# Altium footprint library smd.PcbLib: 6 footprints
Each footprint in its own frame and in the unit in brackets; x right, y up, seen from the top. Pads: shape width x height; smd on the part's side, far side on the other; paste and mask are expansions set on the pad; w line width, h text height; cw(c..) or ccw(c..) is an arc to the next point about the centre after c.
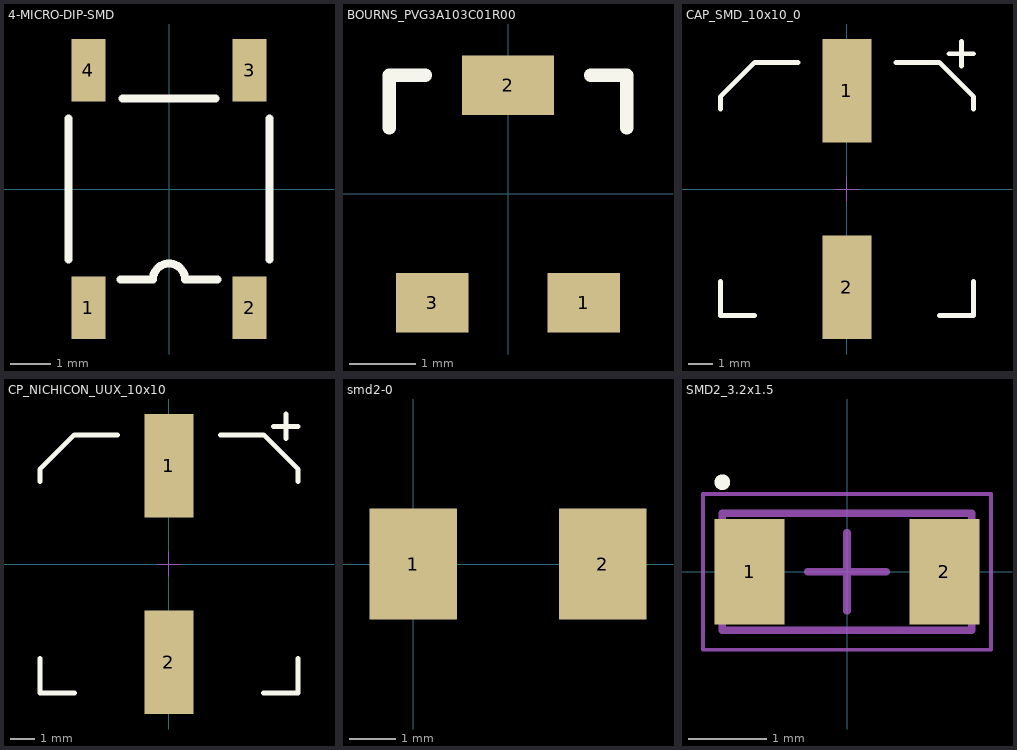
[diagram p0: the footprints below, top view; thin cyan lines are the x and y axes]

## 4-MICRO-DIP-SMD [mm]
pads (4):
  rect 0.85x1.55 smd: 1(-2,-2.95) 2(2,-2.95) 3(2,2.95) 4(-2,2.95)
Top Overlay:
  lines w0.2: -2.5,-1.75 -2.5,1.75 ; -1.2,-2.25 -0.4,-2.25 cw(c0,-2.25) 0.4,-2.25 1.2,-2.25 ; -1.15,2.25 1.15,2.25 ; 2.5,-1.75 2.5,1.75
3D body: height 1.3, standoff 0, extent -2.5,-2.25 2.5,2.25

## BOURNS_PVG3A103C01R00 [mm] "Potenetiometer, Bourns PBG3A series"
pads (3):
  rect 1.1x0.9 smd: 1(1.15,-1.65) 3(-1.15,-1.65)
  rect 1.4x0.9 smd: 2(0,1.65)
Top Overlay:
  lines w0.2: -1.8,1 -1.8,1.8 -1.25,1.8 ; 1.25,1.8 1.8,1.8 1.8,1
3D body "BOURNS_PVG3A103C01R00.step": height 2.06, standoff 0, extent -1.803,-1.803 1.803,1.803

## CAP_SMD_10x10_0 [mm]
pads (2):
  rect 2x4.2 smd: 1(0,4) 2(0,-4)
Top Overlay:
  lines w0.2: -5.15,-3.75 -5.15,-5.15 -3.75,-5.15 ; -5.15,3.25 -5.15,3.75 -3.75,5.15 -2,5.15 ; 2,5.15 3.75,5.15 5.15,3.75 5.15,3.25 ; 3.75,-5.15 5.15,-5.15 5.15,-3.75 ; 4.15,5.5 5.15,5.5 ; 4.65,5 4.65,6
Mechanical 15:
  lines w0.05: -0.5,0 0.5,0 ; 0,-0.5 0,0.5
3D body "CAP_SMD_10x10_0.SLDPRT": height 10, standoff 0, extent -5.15,-5.15 5.15,5.15

## CP_NICHICON_UUX_10x10 [mm] "Nichicon UUX Series 10x10 SMD capacitor"
pads (2):
  rect 2x4.2 smd: 1(0,4) 2(0,-4)
Top Overlay:
  lines w0.2: -5.25,-3.85 -5.25,-5.25 -3.85,-5.25 ; -5.25,3.35 -5.25,3.85 -3.85,5.25 -2.1,5.25 ; 2.1,5.25 3.85,5.25 5.25,3.85 5.25,3.35 ; 3.85,-5.25 5.25,-5.25 5.25,-3.85 ; 4.25,5.6 5.25,5.6 ; 4.75,5.1 4.75,6.1
Mechanical 15:
  lines w0.05: -0.5,0 0.5,0 ; 0,-0.5 0,0.5
3D body "PCAP_10x10-ELECT-M.step": height 10.54, standoff 0, extent -5.245,-5.601 5.245,5.601

## smd2-0 [mm] "2-SMD 3.2x5mm"
pads (2):
  rect 1.9x2.4 smd: 1(0,0) 2(4.1,0)

## SMD2_3.2x1.5 [mm] "DFN, 2-Leads, Body 1.50x3.20mm, Pitch 2.50mm, IPC Medium Density"
height 0.9
pads (2):
  rect 0.9x1.35 smd: 1(-1.25,0) 2(1.25,0)
Top Overlay:
  circle w0.1: c-1.6,1.15 r0.05
Mechanical 13:
  lines w0.1: -1.6,-0.75 -1.6,0.75 1.6,0.75 1.6,-0.75 -1.6,-0.75
Mechanical 15:
  lines w0.05: -1.85,-1 -1.85,1 1.85,1 1.85,-1 -1.85,-1
  lines w0.1: -0.5,0 0.5,0 ; 0,-0.5 0,0.5
3D body: height 0.9, standoff 0, extent -1.6,-0.75 1.6,0.75